# EAGLE library part TESEO-LIV3F (library TESEO-LIV3F)
Check availability <https://pricing.snapeda.com/parts/TESEO-LIV3F/STMicroelectronics/view-part?ref=eda>
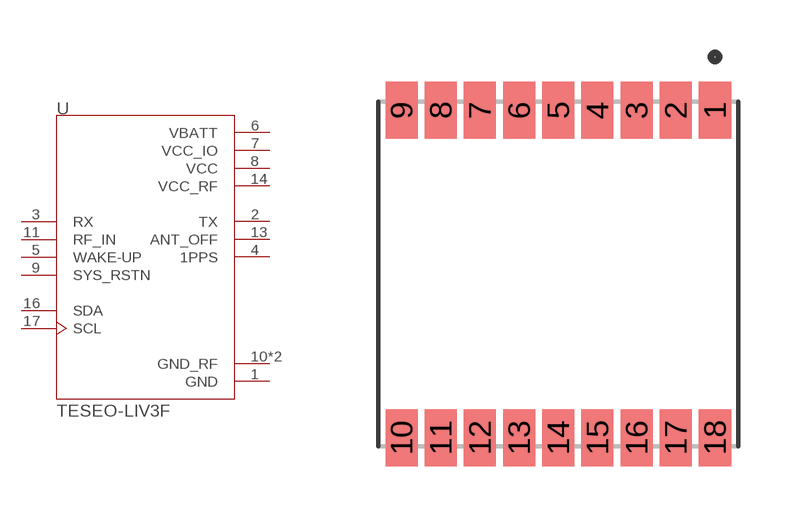
[diagram p0: symbol with the pads of TESEO-LIV3F; footprint TESEO-LIV3F]

Designator prefix U

## TESEO-LIV3F (Availability: In Stock; Check_prices: https://www.snapeda.com/parts/TESEO-LIV3F/STMicroelectronics/view-part/?ref=eda; Description: - RF Receiver BeiDou, Galileo, GLONASS, GNSS, GPS 1.575GHz -163dBm Not Included 18-LCC (9.7x10.1); MF: STMicroelectronics; MP: TESEO-LIV3F; Package: SMD-18 STMicroelectronics; Price: None; SnapEDA_Link: https://www.snapeda.com/parts/TESEO-LIV3F/STMicroelectronics/view-part/?ref=snap)  [TESEO-LIV3F]
1  GND  pwr
2  TX  out
3  RX  in
4  1PPS  out
5  WAKE-UP  in
6  VBATT  pwr
7  VCC_IO  pwr
8  VCC  pwr
9  SYS_RSTN  in
10  GND_RF  pwr
11  RF_IN  in
12  GND_RF  pwr
13  ANT_OFF  out
14  VCC_RF  pwr
16  SDA
17  SCL

## Footprint TESEO-LIV3F (pad centres in mm)
smd 0.9 x 1.6: 1 4.4,4.6; 2 3.3,4.6; 3 2.2,4.6; 4 1.1,4.6; 5 0,4.6; 6 -1.1,4.6; 7 -2.2,4.6; 8 -3.3,4.6; 9 -4.4,4.6; 10 -4.4,-4.6; 11 -3.3,-4.6; 12 -2.2,-4.6; 13 -1.1,-4.6; 14 0,-4.6; 15 1.1,-4.6; 16 2.2,-4.6; 17 3.3,-4.6; 18 4.4,-4.6